# Altium footprint library diode.PCBLIB: 206 footprints (part 8 of 13)
Each footprint in its own frame and in the unit in brackets; x right, y up, seen from the top. Pads: shape width x height; smd on the part's side, far side on the other; paste and mask are expansions set on the pad; w line width, h text height; cw(c..) or ccw(c..) is an arc to the next point about the centre after c.
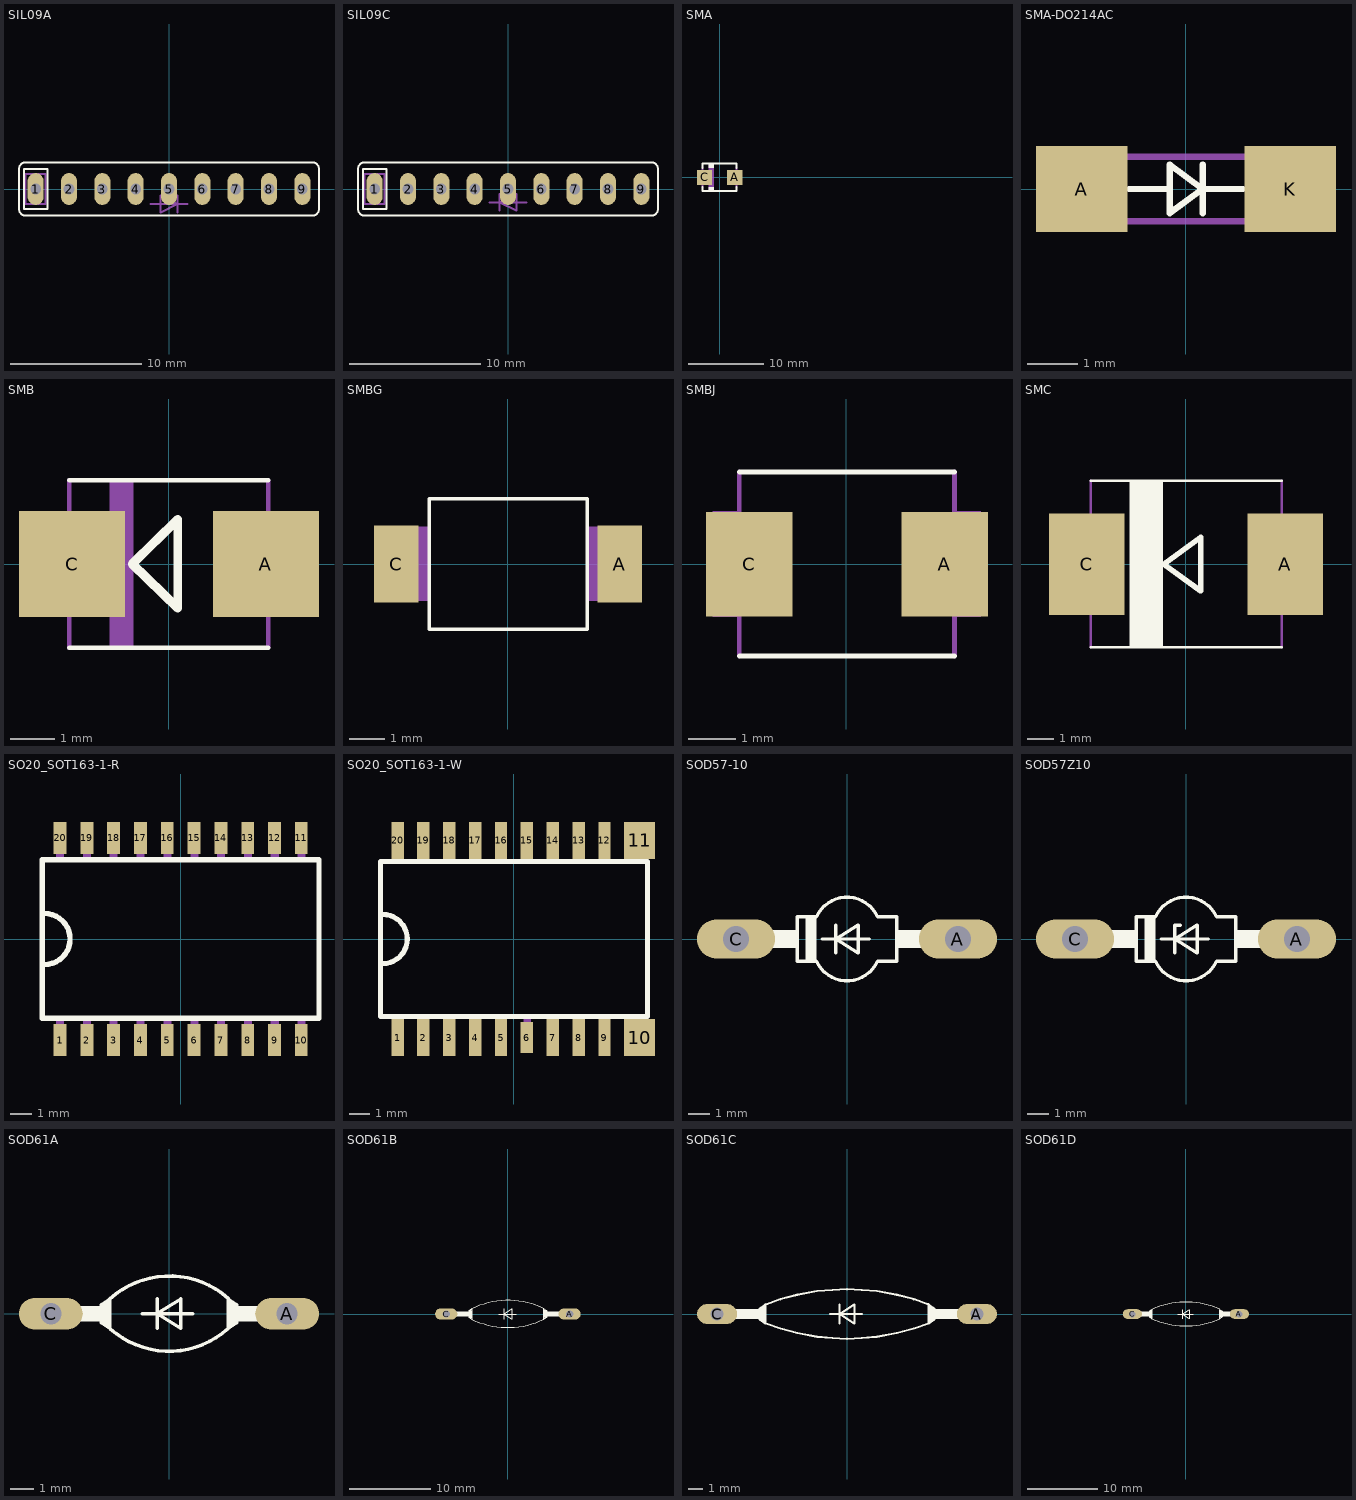
[diagram p7: the footprints below, top view; thin cyan lines are the x and y axes]

## SIL09A [mil]
pads (9):
  oval 48x96 hole 32: 1(-400,0) 2(-300,0) 3(-200,0) 4(-100,0) 5(0,0) 6(100,0) 7(200,0) 8(300,0) 9(400,0)
Top Overlay:
  lines w6: -450,-60 ccw(c-430,-60) -430,-80 430,-80 ccw(c430,-60) 450,-60 450,60 ccw(c430,60) 430,80 -430,80 ccw(c-430,60) -450,60 -450,-60 ; -435,-60 -365,-60 -365,60 -435,60 -435,-60
Mechanical 2:
  text ">NAME" at -430,90 h77.5
Mechanical 4:
  text ">VALUE" at -430,-140 h77.5
Mechanical 16:
  lines w6: -55,-45 -25,-45 ; 25,-70 25,-45 ; 25,-20 25,-45 ; 55,-45 25,-45 ; -25,-45 -25,-70 25,-45 ; -25,-45 -25,-20 25,-45 ; -25,-45 25,-45 ; -430,-45 -370,-45 -370,45 -430,45 -430,-45

## SIL09C [mil]
pads (9):
  oval 48x96 hole 32: 1(-400,0) 2(-300,0) 3(-200,0) 4(-100,0) 5(0,0) 6(100,0) 7(200,0) 8(300,0) 9(400,0)
Top Overlay:
  lines w6: -450,-60 ccw(c-430,-60) -430,-80 430,-80 ccw(c430,-60) 450,-60 450,60 ccw(c430,60) 430,80 -430,80 ccw(c-430,60) -450,60 -450,-60 ; -435,-60 -365,-60 -365,60 -435,60 -435,-60
Mechanical 2:
  text ">NAME" at -440,90 h77.5
Mechanical 4:
  text ">VALUE" at -440,-140 h77.5
Mechanical 16:
  lines w6: -55,-40 -25,-40 ; -25,-65 -25,-40 ; -25,-15 -25,-40 ; 55,-40 25,-40 ; -25,-40 25,-15 25,-40 ; -25,-40 25,-65 25,-40 ; -25,-40 25,-40 ; -430,-45 -370,-45 -370,45 -430,45 -430,-45

## SMA [mil]
pads (2):
  rect 79x79 smd: A(79,0) C(-78.74,0)
Top Overlay:
  rectangle: -59.06,50 -29.53,69
  rectangle: -59.06,-68.9 -29.53,-49.21
  lines w10: -88.58,-49.21 -88.58,-71.85 89,-71.85 cw(c770.02,-60.53) 89,-49.21 ; -88.58,50 -88.58,72 89,72 89,50
Mechanical 2:
  text ">NAME" at -108.27,79 h77.5
Mechanical 4:
  text ">VALUE" at -108.27,-137.8 h77.5
Mechanical 16:
  rectangle: 94,-32.48 111,32
  rectangle: -110.24,-31.5 -93.7,32
  rectangle: -59.06,-68.9 -29.53,69
  lines w10: -88.58,-49.21 -88.58,50 ; 89,-49.21 89,50

## SMA-DO214AC [mil]
pads (2):
  rect 71x67 smd: A(-80.71,0) K(81,0)
Top Overlay:
  lines w5: -43.75,0 -12.5,0 ; 13,-18.75 13,0 ; 13,19 13,0 ; 44,0 13,0 ; -12.5,0 -12.5,19 13,0 ; -12.5,0 -12.5,-18.75 13,0
Mechanical 2:
  text ">NAME" at -125,63 h77.5
Mechanical 4:
  text ">VALUE" at -125,-112.5 h77.5
Mechanical 16:
  rectangle: -93.75,-25 -62.5,25
  rectangle: 63,-25 94,25
  lines w5: -87.5,-25 88,-25 ; -87.5,25 88,25

## SMB [mil]
pads (2):
  rect 95x95 smd: A(87,0) C(-86.61,0)
Top Overlay:
  lines w4: -89,-75 89,-75 ; -89,75 89,75
  lines w8: -32.68,0 8,40 8,-39.37 -32.68,0
Mechanical 2:
  text ">NAME" at -85,85 h77.5
Mechanical 4:
  text ">VALUE" at -85,-135 h77.5
Mechanical 16:
  rectangle: -110,-43 -89,43
  rectangle: 89,-43 110,43
  rectangle: -53.15,-74.8 -31.5,75
  lines w4: -89,-75 -89,75 ; 89,-75 89,75

## SMBG [mil]
pads (2):
  rect 50x86 smd: A(125,0) C(-124.8,0)
Top Overlay:
  lines w4: -88.19,-72.83 89,-72.83 89,73 -88.19,73 -88.19,-72.83
Mechanical 2:
  text ">NAME" at -75,100 h77.5
Mechanical 4:
  text ">VALUE" at -75,-150 h77.5
Mechanical 16:
  rectangle: -127.56,-41.34 -87.8,42
  rectangle: 89,-41.34 128,42

## SMBJ [mil]
pads (2):
  rect 71x86 smd: A(81,0) C(-79.92,0)
Top Overlay:
  lines w4: -88.19,-75.59 89,-75.59 ; -88.19,76 89,76
Mechanical 2:
  text ">NAME" at -75,100 h77.5
Mechanical 4:
  text ">VALUE" at -75,-150 h77.5
Mechanical 16:
  rectangle: -110.24,-43.31 -88.58,44
  rectangle: 89,-43.31 111,44
  lines w4: -88.19,-75.59 -88.19,76 ; 89,-75.59 89,76

## SMC [mil]
pads (2):
  rect 111x150 smd: A(146,0) C(-145.67,0)
Top Overlay:
  rectangle: -82.68,-122.05 -33.46,123
  lines w4: -140.18,-122.24 141,-122.24 ; -140.18,123 141,123
  lines w8: -32.68,0 22,40 22,-39.37 -32.68,0
Mechanical 2:
  text ">NAME" at -136.18,133 h77.5
Mechanical 4:
  text ">VALUE" at -136.18,-182.24 h77.5
Mechanical 16:
  rectangle: -161.18,-43 -140.18,43
  rectangle: 141,-43 162,43
  lines w4: -140.18,-122.24 -140.18,123 ; 141,-122.24 141,123

## SO20_SOT163-1-R [mil]
pads (20):
  rect 24x60 smd: 1(-225,-188.19) 2(-175,-188.19) 3(-125,-188.19) 4(-75,-188.19) 5(-25,-188.19) 6(25,-188.19) 7(75,-188.19) 8(125,-188.19) 9(175,-188.19) 10(225,-188.19) 11(225,189) 12(175,189) 13(125,189) 14(75,189) 15(25,189) 16(-25,189) 17(-75,189) 18(-125,189) 19(-175,189) 20(-225,189)
Top Overlay:
  lines w10: -253.94,-47.24 ccw(c-253.94,0.38) -253.94,48 ; -257.87,-147.64 258,-147.64 258,148 -257.87,148 -257.87,-147.64
Mechanical 2:
  text ">NAME" at -275.59,-153.54 h77.5
Mechanical 4:
  text ">VALUE" at -167.32,-23.62 h77.5
Mechanical 16:
  rectangle: -232.5,-197.5 -217.5,-152.5
  rectangle: -182.5,-197.5 -167.5,-152.5
  rectangle: -132.5,-197.5 -117.5,-152.5
  rectangle: -82.5,-197.5 -67.5,-152.5
  rectangle: -32.5,-197.5 -17.5,-152.5
  rectangle: 18,-197.5 33,-152.5
  rectangle: 68,-197.5 83,-152.5
  rectangle: 118,-197.5 133,-152.5
  rectangle: 168,-197.5 183,-152.5
  rectangle: 218,-197.5 233,-152.5
  rectangle: 218,153 233,198
  rectangle: 168,153 183,198
  rectangle: 118,153 133,198
  rectangle: 68,153 83,198
  rectangle: 18,153 33,198
  rectangle: -32.5,153 -17.5,198
  rectangle: -82.5,153 -67.5,198
  rectangle: -132.5,153 -117.5,198
  rectangle: -182.5,153 -167.5,198
  rectangle: -232.5,153 -217.5,198

## SO20_SOT163-1-W [mil]
pads (20):
  rect 24x71 smd: 1(-225,-190.16) 2(-175,-190.16) 3(-125,-190.16) 4(-75,-190.16) 5(-25,-190.16) 7(75,-190.16) 8(125,-190.16) 9(175,-190.16) 12(175,191) 13(125,191) 14(75,191) 15(25,191) 16(-25,191) 17(-75,191) 18(-125,191) 19(-175,191) 20(-225,191)
  rect 24x60 smd: 6(25,-190.16)
  rect 60x71 smd: 10(243,-190.16) 11(243,191)
Top Overlay:
  lines w10: -253.94,-47.24 ccw(c-253.94,0.38) -253.94,48 ; -257.87,-149.61 258,-149.61 258,150 -257.87,150 -257.87,-149.61
Mechanical 2:
  text ">NAME" at -275.59,-155.51 h77.5
Mechanical 4:
  text ">VALUE" at -167.32,-23.62 h77.5
Mechanical 16:
  rectangle: -232.5,-199.47 -217.5,-154.47
  rectangle: -182.5,-199.47 -167.5,-154.47
  rectangle: -132.5,-199.47 -117.5,-154.47
  rectangle: -82.5,-199.47 -67.5,-154.47
  rectangle: -32.5,-199.47 -17.5,-154.47
  rectangle: 18,-199.47 33,-154.47
  rectangle: 68,-199.47 83,-154.47
  rectangle: 118,-199.47 133,-154.47
  rectangle: 168,-199.47 183,-154.47
  rectangle: 218,-199.47 233,-154.47
  rectangle: 218,155 233,200
  rectangle: 168,155 183,200
  rectangle: 118,155 133,200
  rectangle: 68,155 83,200
  rectangle: 18,155 33,200
  rectangle: -32.5,155 -17.5,200
  rectangle: -82.5,155 -67.5,200
  rectangle: -132.5,155 -117.5,200
  rectangle: -182.5,155 -167.5,200
  rectangle: -232.5,155 -217.5,200

## SOD57-10 [mil]
pads (2):
  oval 141x70.5 hole 47: A(200,0) C(-200,0)
Top Overlay:
  rectangle: -75,-40 -55,40
  rectangle: -151,-16 -90,16
  rectangle: 90,-16 151,16
  lines w6: -45,0 -20,0 ; -20,-25 -20,0 ; -20,25 -20,0 ; 40,0 -20,0 ; -20,0 20,-25 20,25 -20,0 ; -90,-40 -90,40 -55,40 cw(c0,15) 55,40 90,40 90,-40 55,-40 cw(c0,-15) -55,-40 -90,-40
Mechanical 2:
  text ">NAME" at -90,90 h77.5
Mechanical 4:
  text ">VALUE" at -90,-140 h77.5
Mechanical 16:
  lines w32: -200,0 -150,0 ; 150,0 200,0

## SOD57Z10 [mil]
pads (2):
  oval 141x70.5 hole 47: A(200,0) C(-200,0)
Top Overlay:
  rectangle: -75,-40 -55,40
  rectangle: -151,-16 -90,16
  rectangle: 90,-16 151,16
  lines w6: -45,0 -20,0 ; -20,-25 -20,0 ; -10,25 -20,25 -20,0 ; 40,0 -20,0 ; -20,0 20,-25 20,25 -20,0 ; -90,-40 -90,40 -55,40 cw(c0,15) 55,40 90,40 90,-40 55,-40 cw(c0,-15) -55,-40 -90,-40
Mechanical 2:
  text ">NAME" at -90,90 h77.5
Mechanical 4:
  text ">VALUE" at -90,-140 h77.5
Mechanical 16:
  lines w32: -200,0 -150,0 ; 150,0 200,0

## SOD61A [mil]
pads (2):
  oval 108x54 hole 36: A(200,0) C(-200,0)
Top Overlay:
  rectangle: 115,-13 158,13
  rectangle: -158,-13 -115,13
  rectangle: 100,-15 115,15
  rectangle: -115,-15 -100,15
  lines w6: -99.13,-25.79 ccw(c0,85) 100,-25 ; -45,0 -20,0 ; -20,-25 -20,0 ; -20,25 -20,0 ; 40,0 -20,0 ; 100,26 ccw(c0.55,-85.38) -100,25 ; -115,-15 -115,15 ; -115,-15 -100,-25 -100,-20 ; -115,-15 -110,-15 ; -115,15 -100,25 ; -115,15 -110,15 ; -110,-15 -100,-20 ; -110,-15 -100,-15 ; -110,15 -100,20 ; -110,15 -100,15 ; -100,-20 -100,-15 ; -100,-15 -100,15 ; -100,15 -100,20 ; -100,20 -100,25 ; -20,0 20,-25 20,25 -20,0 ; 100,-25 115,-15 ; 100,-25 100,-20 ; 100,-20 110,-15 ; 100,-20 100,-15 ; 100,-15 110,-15 ; 100,-15 100,15 ; 100,15 110,15 ; 100,15 100,20 ; 100,20 110,15 ; 100,20 100,25 115,15 ; 110,-15 115,-15 ; 110,15 115,15 ; 115,-15 115,15
Mechanical 2:
  text ">NAME" at -100,75 h77.5
Mechanical 4:
  text ">VALUE" at -100,-120 h77.5
Mechanical 16:
  lines w26: -200,0 -160,0 ; 160,0 200,0

## SOD61B [mil]
pads (2):
  oval 108x54 hole 36: A(300,0) C(-300,0)
Top Overlay:
  rectangle: 175,-15 190,15
  rectangle: -190,-15 -175,15
  rectangle: 190,-13 257,13
  rectangle: -257,-13 -190,13
  lines w6: -174.92,-25.04 ccw(c0,332) 175,-25 ; -45,0 -20,0 ; -20,-25 -20,0 ; -20,25 -20,0 ; 40,0 -20,0 ; 175,26 ccw(c1.02,-331.6) -175,25 ; -190,-15 -190,15 ; -190,-15 -175,-25 -175,-20 ; -190,-15 -185,-15 ; -190,15 -175,25 ; -190,15 -185,15 ; -185,-15 -175,-20 ; -185,-15 -175,-15 ; -185,15 -175,20 ; -185,15 -175,15 ; -175,-20 -175,-15 ; -175,-15 -175,15 ; -175,15 -175,20 ; -175,20 -175,25 ; -20,0 20,-25 20,25 -20,0 ; 175,-25 190,-15 ; 175,-25 175,-20 ; 175,-20 185,-15 ; 175,-20 175,-15 ; 175,-15 185,-15 ; 175,-15 175,15 ; 175,15 185,15 ; 175,15 175,20 ; 175,20 185,15 ; 175,20 175,25 190,15 ; 185,-15 190,-15 ; 185,15 190,15 ; 190,-15 190,15
Mechanical 2:
  text ">NAME" at -110,75 h77.5
Mechanical 4:
  text ">VALUE" at -110,-130 h77.5
Mechanical 16:
  lines w26: -300,0 -260,0 ; 260,0 300,0

## SOD61C [mil]
pads (2):
  oval 108x54 hole 36: A(350,0) C(-350,0)
Top Overlay:
  rectangle: 220,-15 235,15
  rectangle: -235,-15 -220,15
  rectangle: 235,-13 308,13
  rectangle: -308,-13 -235,13
  lines w6: -218.5,-25.59 -179.13,-39.37 -133.86,-51.18 -80.71,-61.02 -39.37,-64.96 0,-66.93 40,-64.96 81,-61.02 134,-51.18 180,-39.37 219,-25.59 ; -218.5,26 -179.13,40 -133.86,52 -80.71,62 -39.37,65 0,67 40,65 81,62 134,52 180,40 219,26 ; -45,0 -20,0 ; -20,-25 -20,0 ; -20,25 -20,0 ; 40,0 -20,0 ; -235,-15 -235,15 ; -235,-15 -220,-25 -220,-20 ; -235,-15 -230,-15 ; -235,15 -220,25 -220,20 ; -235,15 -230,15 ; -230,-15 -220,-20 ; -230,-15 -220,-15 ; -230,15 -220,20 ; -230,15 -220,15 ; -220,-20 -220,-15 ; -220,-15 -220,15 ; -220,15 -220,20 ; -20,0 20,-25 20,25 -20,0 ; 220,-20 220,-25 235,-15 ; 220,-20 230,-15 ; 220,-20 220,-15 ; 220,-15 230,-15 ; 220,-15 220,15 ; 220,15 230,15 ; 220,15 220,20 ; 220,20 230,15 ; 220,20 220,25 235,15 ; 230,-15 235,-15 ; 230,15 235,15 ; 235,-15 235,15
Mechanical 2:
  text ">NAME" at -90,75 h77.5
Mechanical 4:
  text ">VALUE" at -90,-130 h77.5
Mechanical 16:
  lines w26: -350,0 -310,0 ; 310,0 350,0

## SOD61D [mil]
pads (2):
  oval 108x54 hole 36: A(300,0) C(-300,0)
Top Overlay:
  rectangle: 190,-15 205,15
  rectangle: -205,-15 -190,15
  rectangle: 205,-13 257,13
  rectangle: -257,-13 -205,13
  lines w6: -45,0 -20,0 ; -20,-25 -20,0 ; -20,25 -20,0 ; 40,0 -20,0 ; 190,26 ccw(c1.08,-386.53) -190,25 ; -205,-15 -205,15 ; -205,-15 -190,-25 ; -205,-15 -200,-15 ; -205,15 -190,25 ; -205,15 -200,15 ; -200,-15 -190,-20 ; -200,-15 -190,-15 ; -200,15 -190,20 ; -200,15 -190,15 ; -190,-25 -190,-20 ; -189.98,-25.01 ccw(c0,387) 190,-25 ; -190,-20 -190,-15 ; -190,-15 -190,15 ; -190,15 -190,20 ; -190,20 -190,25 ; -20,0 20,-25 20,25 -20,0 ; 190,-25 205,-15 ; 190,-25 190,-20 ; 190,-20 200,-15 ; 190,-20 190,-15 ; 190,-15 200,-15 ; 190,-15 190,15 ; 190,15 200,15 ; 190,15 190,20 ; 190,20 200,15 ; 190,20 190,25 205,15 ; 200,-15 205,-15 ; 200,15 205,15 ; 205,-15 205,15
Mechanical 2:
  text ">NAME" at -100,75 h77.5
Mechanical 4:
  text ">VALUE" at -100,-130 h77.5
Mechanical 16:
  lines w26: -300,0 -260,0 ; 260,0 300,0